# EAGLE library part SH_EK_TM4C1294XL (library SH_EK_TM4c1294XL)
Evaluation kit of Texas Instrument EK-TM4C1294XL shield
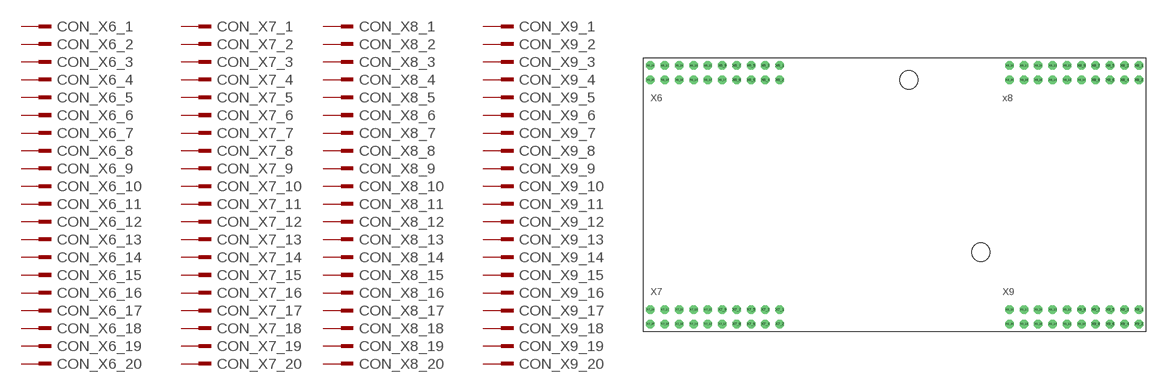
[diagram p0: symbol with the pads of EK-TM4C1294XL-SH; footprint EK-TM4C1294XL-SH]

Designator prefix CON; gates _X6_1=SYM_EK_TM4C1294XL _X6_2=SYM_EK_TM4C1294XL _X6_3=SYM_EK_TM4C1294XL _X6_4=SYM_EK_TM4C1294XL _X6_5=SYM_EK_TM4C1294XL _X6_6=SYM_EK_TM4C1294XL _X6_7=SYM_EK_TM4C1294XL _X6_8=SYM_EK_TM4C1294XL _X6_9=SYM_EK_TM4C1294XL _X6_10=SYM_EK_TM4C1294XL _X6_11=SYM_EK_TM4C1294XL _X6_12=SYM_EK_TM4C1294XL _X6_13=SYM_EK_TM4C1294XL _X6_14=SYM_EK_TM4C1294XL _X6_15=SYM_EK_TM4C1294XL _X6_16=SYM_EK_TM4C1294XL _X6_17=SYM_EK_TM4C1294XL _X6_18=SYM_EK_TM4C1294XL _X6_19=SYM_EK_TM4C1294XL _X6_20=SYM_EK_TM4C1294XL _X7_1=SYM_EK_TM4C1294XL _X7_2=SYM_EK_TM4C1294XL _X7_3=SYM_EK_TM4C1294XL _X7_4=SYM_EK_TM4C1294XL _X7_5=SYM_EK_TM4C1294XL _X7_6=SYM_EK_TM4C1294XL _X7_7=SYM_EK_TM4C1294XL _X7_8=SYM_EK_TM4C1294XL _X7_9=SYM_EK_TM4C1294XL _X7_10=SYM_EK_TM4C1294XL _X7_11=SYM_EK_TM4C1294XL _X7_12=SYM_EK_TM4C1294XL _X7_13=SYM_EK_TM4C1294XL _X7_14=SYM_EK_TM4C1294XL _X7_15=SYM_EK_TM4C1294XL _X7_16=SYM_EK_TM4C1294XL _X7_17=SYM_EK_TM4C1294XL _X7_18=SYM_EK_TM4C1294XL _X7_19=SYM_EK_TM4C1294XL _X7_20=SYM_EK_TM4C1294XL _X8_1=SYM_EK_TM4C1294XL _X8_2=SYM_EK_TM4C1294XL _X8_3=SYM_EK_TM4C1294XL _X8_4=SYM_EK_TM4C1294XL _X8_5=SYM_EK_TM4C1294XL _X8_6=SYM_EK_TM4C1294XL _X8_7=SYM_EK_TM4C1294XL _X8_8=SYM_EK_TM4C1294XL _X8_9=SYM_EK_TM4C1294XL _X8_10=SYM_EK_TM4C1294XL _X8_11=SYM_EK_TM4C1294XL _X8_12=SYM_EK_TM4C1294XL _X8_13=SYM_EK_TM4C1294XL _X8_14=SYM_EK_TM4C1294XL _X8_15=SYM_EK_TM4C1294XL _X8_16=SYM_EK_TM4C1294XL _X8_17=SYM_EK_TM4C1294XL _X8_18=SYM_EK_TM4C1294XL _X8_19=SYM_EK_TM4C1294XL _X8_20=SYM_EK_TM4C1294XL _X9_1=SYM_EK_TM4C1294XL _X9_2=SYM_EK_TM4C1294XL _X9_3=SYM_EK_TM4C1294XL _X9_4=SYM_EK_TM4C1294XL _X9_5=SYM_EK_TM4C1294XL _X9_7=SYM_EK_TM4C1294XL _X9_6=SYM_EK_TM4C1294XL _X9_9=SYM_EK_TM4C1294XL _X9_8=SYM_EK_TM4C1294XL _X9_10=SYM_EK_TM4C1294XL _X9_11=SYM_EK_TM4C1294XL _X9_12=SYM_EK_TM4C1294XL _X9_13=SYM_EK_TM4C1294XL _X9_14=SYM_EK_TM4C1294XL _X9_15=SYM_EK_TM4C1294XL _X9_16=SYM_EK_TM4C1294XL _X9_17=SYM_EK_TM4C1294XL _X9_18=SYM_EK_TM4C1294XL _X9_19=SYM_EK_TM4C1294XL _X9_20=SYM_EK_TM4C1294XL

## SH_EK_TM4C1294XL  [EK-TM4C1294XL-SH]
X6_1  _X6_1:1  pas
X6_2  _X6_2:1  pas
X6_3  _X6_3:1  pas
X6_4  _X6_4:1  pas
X6_5  _X6_5:1  pas
X6_6  _X6_6:1  pas
X6_7  _X6_7:1  pas
X6_8  _X6_8:1  pas
X6_9  _X6_9:1  pas
X6_10  _X6_10:1  pas
X6_11  _X6_11:1  pas
X6_12  _X6_12:1  pas
X6_13  _X6_13:1  pas
X6_14  _X6_14:1  pas
X6_15  _X6_15:1  pas
X6_16  _X6_16:1  pas
X6_17  _X6_17:1  pas
X6_18  _X6_18:1  pas
X6_19  _X6_19:1  pas
X6_20  _X6_20:1  pas
X7_1  _X7_1:1  pas
X7_2  _X7_2:1  pas
X7_3  _X7_3:1  pas
X7_4  _X7_4:1  pas
X7_5  _X7_5:1  pas
X7_6  _X7_6:1  pas
X7_7  _X7_7:1  pas
X7_8  _X7_8:1  pas
X7_9  _X7_9:1  pas
X7_10  _X7_10:1  pas
X7_11  _X7_11:1  pas
X7_12  _X7_12:1  pas
X7_13  _X7_13:1  pas
X7_14  _X7_14:1  pas
X7_15  _X7_15:1  pas
X7_16  _X7_16:1  pas
X7_17  _X7_17:1  pas
X7_18  _X7_18:1  pas
X7_19  _X7_19:1  pas
X7_20  _X7_20:1  pas
X8_1  _X8_1:1  pas
X8_2  _X8_2:1  pas
X8_3  _X8_3:1  pas
X8_4  _X8_4:1  pas
X8_5  _X8_5:1  pas
X8_6  _X8_6:1  pas
X8_7  _X8_7:1  pas
X8_8  _X8_8:1  pas
X8_9  _X8_9:1  pas
X8_10  _X8_10:1  pas
X8_11  _X8_11:1  pas
X8_12  _X8_12:1  pas
X8_13  _X8_13:1  pas
X8_14  _X8_14:1  pas
X8_15  _X8_15:1  pas
X8_16  _X8_16:1  pas
X8_17  _X8_17:1  pas
X8_18  _X8_18:1  pas
X8_19  _X8_19:1  pas
X8_20  _X8_20:1  pas
X9_1  _X9_1:1  pas
X9_2  _X9_2:1  pas
X9_3  _X9_3:1  pas
X9_4  _X9_4:1  pas
X9_5  _X9_5:1  pas
X9_6  _X9_6:1  pas
X9_7  _X9_7:1  pas
X9_8  _X9_8:1  pas
X9_9  _X9_9:1  pas
X9_10  _X9_10:1  pas
X9_11  _X9_11:1  pas
X9_12  _X9_12:1  pas
X9_13  _X9_13:1  pas
X9_14  _X9_14:1  pas
X9_15  _X9_15:1  pas
X9_16  _X9_16:1  pas
X9_17  _X9_17:1  pas
X9_18  _X9_18:1  pas
X9_19  _X9_19:1  pas
X9_20  _X9_20:1  pas

## Footprint EK-TM4C1294XL-SH (pad centres in mm)
Shield for Tiva EK-TM4C1294XL
drill 1 pad 1.5 octagon: X6_1 -20.32,22.86; X6_2 -20.32,20.32; X6_3 -22.86,22.86; X6_4 -22.86,20.32; X6_5 -25.4,22.86; X6_6 -25.4,20.32; X6_7 -27.94,22.86; X6_8 -27.94,20.32; X6_9 -30.48,22.86; X6_10 -30.48,20.32; X6_11 -33.02,22.86; X6_12 -33.02,20.32; X6_13 -35.56,22.86; X6_14 -35.56,20.32; X6_15 -38.1,22.86; X6_16 -38.1,20.32; X6_17 -40.64,22.86; X6_18 -40.64,20.32; X6_19 -43.18,22.86; X6_20 -43.18,20.32; X7_1 -20.32,-20.32; X7_2 -20.32,-22.86; X7_3 -22.86,-20.32; X7_4 -22.86,-22.86; X7_5 -25.4,-20.32; X7_6 -25.4,-22.86; X7_7 -27.94,-20.32; X7_8 -27.94,-22.86; X7_9 -30.48,-20.32; X7_10 -30.48,-22.86; X7_11 -33.02,-20.32; X7_12 -33.02,-22.86; X7_13 -35.56,-20.32; X7_14 -35.56,-22.86; X7_15 -38.1,-20.32; X7_16 -38.1,-22.86; X7_17 -40.64,-20.32; X7_18 -40.64,-22.86; X7_19 -43.18,-20.32; X7_20 -43.18,-22.86; X8_1 43.18,22.86; X8_2 43.18,20.32; X8_3 40.64,22.86; X8_4 40.64,20.32; X8_5 38.1,22.86; X8_6 38.1,20.32; X8_7 35.56,22.86; X8_8 35.56,20.32; X8_9 33.02,22.86; X8_10 33.02,20.32; X8_11 30.48,22.86; X8_12 30.48,20.32; X8_13 27.94,22.86; X8_14 27.94,20.32; X8_15 25.4,22.86; X8_16 25.4,20.32; X8_17 22.86,22.86; X8_18 22.86,20.32; X8_19 20.32,22.86; X8_20 20.32,20.32; X9_1 43.18,-20.32; X9_2 43.18,-22.86; X9_3 40.64,-20.32; X9_4 40.64,-22.86; X9_5 38.1,-20.32; X9_6 38.1,-22.86; X9_7 35.56,-20.32; X9_8 35.56,-22.86; X9_9 33.02,-20.32; X9_10 33.02,-22.86; X9_11 30.48,-20.32; X9_12 30.48,-22.86; X9_13 27.94,-20.32; X9_14 27.94,-22.86; X9_15 25.4,-20.32; X9_16 25.4,-22.86; X9_17 22.86,-20.32; X9_18 22.86,-22.86; X9_19 20.32,-20.32; X9_20 20.32,-22.86
hole 3.2 at 2.54,20.32
hole 3.2 at 15.24,-10.16